# EAGLE library part 3X2_CINCH (library cinch)
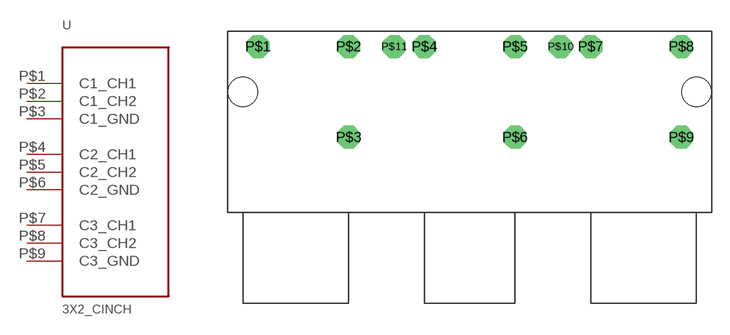
[diagram p0: symbol with the pads of 3X2_CINCH; footprint 3X2_CINCH]

Designator prefix -

## 3X2_CINCH  [3X2_CINCH]
P$1  C1_CH1
P$2  C1_CH2
P$3  C1_GND
P$4  C2_CH1
P$5  C2_CH2
P$6  C2_GND
P$7  C3_CH1
P$8  C3_CH2
P$9  C3_GND

## Footprint 3X2_CINCH (pad centres in mm)
drill 1.1 pad 1.93 octagon: P$1 -16.51,5.08; P$2 -8.89,5.08; P$3 -8.89,-2.54; P$4 -2.54,5.08; P$5 5.08,5.08; P$6 5.08,-2.54; P$7 11.43,5.08; P$8 19.05,5.08; P$9 19.05,-2.54; P$10 8.89,5.08; P$11 -5.08,5.08
hole 2.5 at -17.78,1.27
hole 2.5 at 20.32,1.27